# Altium footprint library SO-0815-03-01-01-N.PcbLib: 1 footprints
Each footprint in its own frame and in the unit in brackets; x right, y up, seen from the top. Pads: shape width x height; smd on the part's side, far side on the other; paste and mask are expansions set on the pad; w line width, h text height; cw(c..) or ccw(c..) is an arc to the next point about the centre after c.
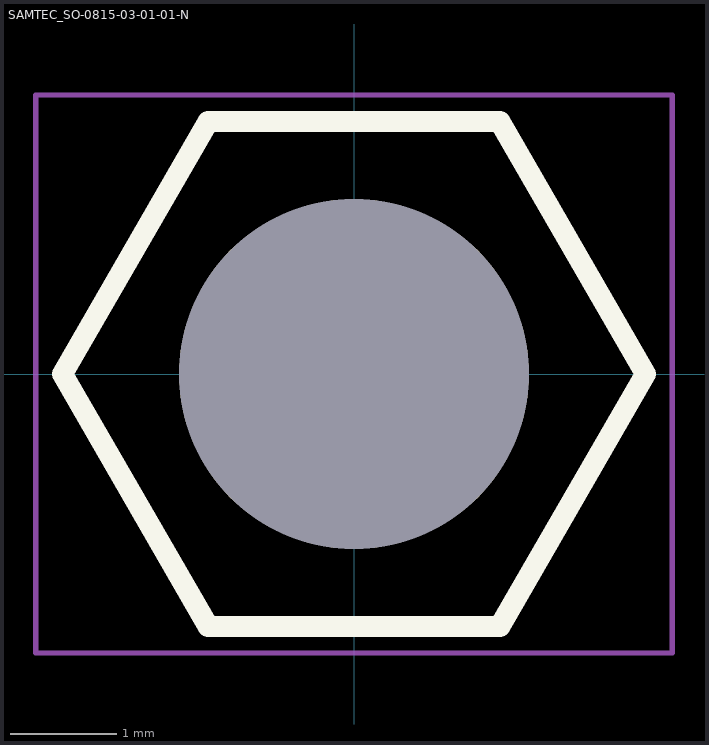
[diagram p0: the footprint, top view; thin cyan lines are the x and y axes]

## SAMTEC_SO-0815-03-01-01-N [mm]
pads (1):
  round 3.3 hole 3.3 unplated: ""(0,0)
Top Overlay:
  lines w0.2: -2.748,0 -1.374,2.38 1.374,2.38 2.748,0 1.374,-2.38 -1.374,-2.38 -2.748,0
Mechanical 13:
  lines w0.1: -2.748,0 -1.374,2.38 1.374,2.38 2.748,0 1.374,-2.38 -1.374,-2.38 -2.748,0
Mechanical 15:
  lines w0.05: -3,-2.63 3,-2.63 3,2.63 -3,2.63 -3,-2.63